# Altium schematic symbol library Terminal_Blocks_Pluggable_5.08mm.SchLib: 20 symbols
Pins are listed as number, name and electrical type; pins without a type are passive.

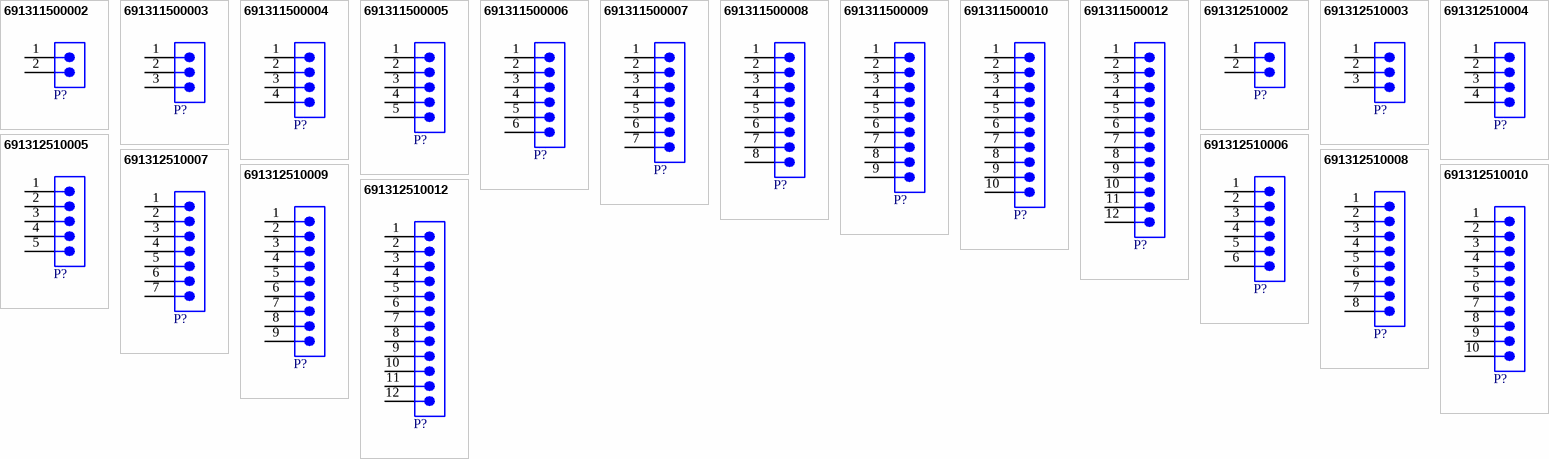
[diagram p0: symbols 691311500002 to 691312510012]

## 691311500002
designator P?  (value not drawn)
WR-TBL Series 311 Open Vertical PCB Header, THT, pitch 5.08mm, 2p; Manufacturer: Wurth Elektronik; Modularity: No; Rated Current: 20A; Working Voltage: 300V; Supply 3 Name: ThegioiIC; ComponentLink1Description: Website Link; ComponentLink1URL: https://www.we-online.com/redexpert/article/691311500002?ad; ComponentLink2Description: Datasheet Link; ComponentLink2URL: https://www.we-online.com/redexpert/spec/691311500002?ad; Manufacturer Part Number: 691311500002; Category: Terminal Blocks; Match Code: WR-TBL; Mount: Through Hole; Operating Temperature Max: 105°C; Operating Temperature Min: -40°C; Packaging: Box; Application: Pluggable; Number of Pins: 2; Number of Rows: 1; Orientation: Vertical; Pitch: 5.08mm; Supply 1 Name: *; Supply 1 SN: *; Supply 1 URL: *; Supply 2 Name: *; Supply 2 SN: *; Supply 2 URL: *; Supply 3 SN: *; Supply 3 URL 1: https://www.thegioiic.com/kf-5-08-2-v-terminal-block-plug-in-han-pcb-2-chan-thang-5-08mm-300v-15a; Supply 3 URL 2: https://www.thegioiic.com/ul-5-08-2-v-terminal-block-plug-in-han-pcb-2-chan-thang-5-08mm-300v-15a-ulo
footprint 691311500002
pins: 1, 2

## 691311500003
designator P?  (value not drawn)
WR-TBL Series 311 Open Vertical PCB Header, THT, pitch 5.08mm, 3p; Manufacturer: Wurth Elektronik; Modularity: No; Rated Current: 20A; Working Voltage: 300V; Supply 3 Name: ThegioiIC; ComponentLink1Description: Website Link; ComponentLink1URL: https://www.we-online.com/redexpert/article/691311500003?ad; ComponentLink2Description: Datasheet Link; ComponentLink2URL: https://www.we-online.com/redexpert/spec/691311500003?ad; Manufacturer Part Number: 691311500003; Category: Terminal Blocks; Match Code: WR-TBL; Mount: Through Hole; Operating Temperature Max: 105°C; Operating Temperature Min: -40°C; Packaging: Box; Application: Pluggable; Number of Pins: 3; Number of Rows: 1; Orientation: Vertical; Pitch: 5.08mm; Supply 1 Name: *; Supply 1 SN: *; Supply 1 URL: *; Supply 2 Name: *; Supply 2 SN: *; Supply 2 URL: *; Supply 3 SN: *; Supply 3 URL 1: https://www.thegioiic.com/kf-5-08-3-v-terminal-block-plug-in-han-pcb-3-chan-thang-5-08mm-300v-15a; Supply 3 URL 2: https://www.thegioiic.com/ul-5-08-3-v-terminal-block-plug-in-han-pcb-3-chan-thang-5-08mm-300v-15a-ulo
footprint 691311500003
pins: 1, 2, 3

## 691311500004
designator P?  (value not drawn)
WR-TBL Series 311 Open Vertical PCB Header, THT, pitch 5.08mm, 4p; Manufacturer: Wurth Elektronik; Modularity: No; Rated Current: 20A; Working Voltage: 300V; Supply 3 Name: ThegioiIC; ComponentLink1Description: Website Link; ComponentLink1URL: https://www.we-online.com/redexpert/article/691311500004?ad; ComponentLink2Description: Datasheet Link; ComponentLink2URL: https://www.we-online.com/redexpert/spec/691311500004?ad; Manufacturer Part Number: 691311500004; Category: Terminal Blocks; Match Code: WR-TBL; Mount: Through Hole; Operating Temperature Max: 105°C; Operating Temperature Min: -40°C; Packaging: Box; Application: Pluggable; Number of Pins: 4; Number of Rows: 1; Orientation: Vertical; Pitch: 5.08mm; Supply 1 Name: *; Supply 1 SN: *; Supply 1 URL: *; Supply 2 Name: *; Supply 2 SN: *; Supply 2 URL: *; Supply 3 SN: *; Supply 3 URL 1: https://www.thegioiic.com/kf-5-08-4-v-terminal-block-plug-in-han-pcb-4-chan-thang-5-08mm-300v-15a; Supply 3 URL 2: https://www.thegioiic.com/ul-5-08-4-v-terminal-block-plug-in-han-pcb-4-chan-thang-5-08mm-300v-15a-ulo
footprint 691311500004
pins: 1, 2, 3, 4

## 691311500005
designator P?  (value not drawn)
WR-TBL Series 311 Open Vertical PCB Header, THT, pitch 5.08mm, 5p; Manufacturer: Wurth Elektronik; Modularity: No; Rated Current: 20A; Working Voltage: 300V; Supply 3 Name: ThegioiIC; ComponentLink1Description: Website Link; ComponentLink1URL: https://www.we-online.com/redexpert/article/691311500005?ad; ComponentLink2Description: Datasheet Link; ComponentLink2URL: https://www.we-online.com/redexpert/spec/691311500005?ad; Manufacturer Part Number: 691311500005; Category: Terminal Blocks; Match Code: WR-TBL; Mount: Through Hole; Operating Temperature Max: 105°C; Operating Temperature Min: -40°C; Packaging: Box; Application: Pluggable; Number of Pins: 5; Number of Rows: 1; Orientation: Vertical; Pitch: 5.08mm; Supply 1 Name: *; Supply 1 SN: *; Supply 1 URL: *; Supply 2 Name: *; Supply 2 SN: *; Supply 2 URL: *; Supply 3 SN: *; Supply 3 URL 1: https://www.thegioiic.com/kf-5-08-5-v-terminal-block-plug-in-han-pcb-5-chan-thang-5-08mm-300v-15a; Supply 3 URL 2: https://www.thegioiic.com/ul-5-08-5-v-terminal-block-plug-in-han-pcb-5-chan-thang-5-08mm-300v-15a-ulo
footprint 691311500005
pins: 1, 2, 3, 4, 5

## 691311500006
designator P?  (value not drawn)
WR-TBL Series 311 Open Vertical PCB Header, THT, pitch 5.08mm, 6p; Manufacturer: Wurth Elektronik; Modularity: No; Rated Current: 20A; Working Voltage: 300V; Supply 3 Name: ThegioiIC; ComponentLink1Description: Website Link; ComponentLink1URL: https://www.we-online.com/redexpert/article/691311500006?ad; ComponentLink2Description: Datasheet Link; ComponentLink2URL: https://www.we-online.com/redexpert/spec/691311500006?ad; Manufacturer Part Number: 691311500006; Category: Terminal Blocks; Match Code: WR-TBL; Mount: Through Hole; Operating Temperature Max: 105°C; Operating Temperature Min: -40°C; Packaging: Box; Application: Pluggable; Number of Pins: 6; Number of Rows: 1; Orientation: Vertical; Pitch: 5.08mm; Supply 1 Name: *; Supply 1 SN: *; Supply 1 URL: *; Supply 2 Name: *; Supply 2 SN: *; Supply 2 URL: *; Supply 3 SN: *; Supply 3 URL 1: https://www.thegioiic.com/kf-5-08-6-v-terminal-block-plug-in-han-pcb-6-chan-thang-5-08mm-300v-15a; Supply 3 URL 2: https://www.thegioiic.com/ul-5-08-6-v-terminal-block-plug-in-han-pcb-6-chan-thang-5-08mm-300v-15a-ulo
footprint 691311500006
pins: 1, 2, 3, 4, 5, 6

## 691311500007
designator P?  (value not drawn)
WR-TBL Series 311 Open Vertical PCB Header, THT, pitch 5.08mm, 7p; Manufacturer: Wurth Elektronik; Modularity: No; Rated Current: 20A; Working Voltage: 300V; Supply 3 Name: ThegioiIC; ComponentLink1Description: Website Link; ComponentLink1URL: https://www.we-online.com/redexpert/article/691311500007?ad; ComponentLink2Description: Datasheet Link; ComponentLink2URL: https://www.we-online.com/redexpert/spec/691311500007?ad; Manufacturer Part Number: 691311500007; Category: Terminal Blocks; Match Code: WR-TBL; Mount: Through Hole; Operating Temperature Max: 105°C; Operating Temperature Min: -40°C; Packaging: Box; Application: Pluggable; Number of Pins: 7; Number of Rows: 1; Orientation: Vertical; Pitch: 5.08mm; Supply 1 Name: *; Supply 1 SN: *; Supply 1 URL: *; Supply 2 Name: *; Supply 2 SN: *; Supply 2 URL: *; Supply 3 SN: *; Supply 3 URL 1: https://www.thegioiic.com/kf-5-08-7-v-terminal-block-plug-in-han-pcb-7-chan-thang-5-08mm-300v-15a; Supply 3 URL 2: https://www.thegioiic.com/ul-5-08-7-v-terminal-block-plug-in-han-pcb-7-chan-thang-5-08mm-300v-15a-ulo
footprint 691311500007
pins: 1, 2, 3, 4, 5, 6, 7

## 691311500008
designator P?  (value not drawn)
WR-TBL Series 311 Open Vertical PCB Header, THT, pitch 5.08mm, 8p; Manufacturer: Wurth Elektronik; Modularity: No; Rated Current: 20A; Working Voltage: 300V; Supply 3 Name: ThegioiIC; ComponentLink1Description: Website Link; ComponentLink1URL: https://www.we-online.com/redexpert/article/691311500008?ad; ComponentLink2Description: Datasheet Link; ComponentLink2URL: https://www.we-online.com/redexpert/spec/691311500008?ad; Manufacturer Part Number: 691311500008; Category: Terminal Blocks; Match Code: WR-TBL; Mount: Through Hole; Operating Temperature Max: 105°C; Operating Temperature Min: -40°C; Packaging: Box; Application: Pluggable; Number of Pins: 8; Number of Rows: 1; Orientation: Vertical; Pitch: 5.08mm; Supply 1 Name: *; Supply 1 SN: *; Supply 1 URL: *; Supply 2 Name: *; Supply 2 SN: *; Supply 2 URL: *; Supply 3 SN: *; Supply 3 URL 1: https://www.thegioiic.com/kf-5-08-8-v-terminal-block-plug-in-han-pcb-8-chan-thang-5-08mm-300v-15a; Supply 3 URL 2: https://www.thegioiic.com/ul-5-08-8-v-terminal-block-plug-in-han-pcb-8-chan-thang-5-08mm-300v-15a-ulo
footprint 691311500008
pins: 1, 2, 3, 4, 5, 6, 7, 8

## 691311500009
designator P?  (value not drawn)
WR-TBL Series 311 Open Vertical PCB Header, THT, pitch 5.08mm, 9p; Manufacturer: Wurth Elektronik; Modularity: No; Rated Current: 20A; Working Voltage: 300V; Supply 3 Name: ThegioiIC; ComponentLink1Description: Website Link; ComponentLink1URL: https://www.we-online.com/redexpert/article/691311500009?ad; ComponentLink2Description: Datasheet Link; ComponentLink2URL: https://www.we-online.com/redexpert/spec/691311500009?ad; Manufacturer Part Number: 691311500009; Category: Terminal Blocks; Match Code: WR-TBL; Mount: Through Hole; Operating Temperature Max: 105°C; Operating Temperature Min: -40°C; Packaging: Box; Application: Pluggable; Number of Pins: 9; Number of Rows: 1; Orientation: Vertical; Pitch: 5.08mm; Supply 1 Name: *; Supply 1 SN: *; Supply 1 URL: *; Supply 2 Name: *; Supply 2 SN: *; Supply 2 URL: *; Supply 3 SN: *; Supply 3 URL 1: https://www.thegioiic.com/kf-5-08-9-v-terminal-block-plug-in-han-pcb-9-chan-thang-5-08mm-300v-15a; Supply 3 URL 2: https://www.thegioiic.com/ul-5-08-9-v-terminal-block-plug-in-han-pcb-9-chan-thang-5-08mm-300v-15a-ulo
footprint 691311500009
pins: 1, 2, 3, 4, 5, 6, 7, 8, 9

## 691311500010
designator P?  (value not drawn)
WR-TBL Series 311 Open Vertical PCB Header, THT, pitch 5.08mm, 10p; Manufacturer: Wurth Elektronik; Modularity: No; Rated Current: 20A; Working Voltage: 300V; Supply 3 Name: ThegioiIC; ComponentLink1Description: Website Link; ComponentLink1URL: https://www.we-online.com/redexpert/article/691311500010?ad; ComponentLink2Description: Datasheet Link; ComponentLink2URL: https://www.we-online.com/redexpert/spec/691311500010?ad; Manufacturer Part Number: 691311500010; Category: Terminal Blocks; Match Code: WR-TBL; Mount: Through Hole; Operating Temperature Max: 105°C; Operating Temperature Min: -40°C; Packaging: Box; Application: Pluggable; Number of Pins: 10; Number of Rows: 1; Orientation: Vertical; Pitch: 5.08mm; Supply 1 Name: *; Supply 1 SN: *; Supply 1 URL: *; Supply 2 Name: *; Supply 2 SN: *; Supply 2 URL: *; Supply 3 SN: *; Supply 3 URL 1: https://www.thegioiic.com/kf-5-08-10-v-terminal-block-plug-in-han-pcb-10-chan-thang-5-08mm-300v-15a; Supply 3 URL 2: https://www.thegioiic.com/ul-5-08-10-v-terminal-block-plug-in-han-pcb-10-chan-thang-5-08mm-300v-15a-ulo
footprint 691311500010
pins: 1, 2, 3, 4, 5, 6, 7, 8, 9, 10

## 691311500012
designator P?  (value not drawn)
WR-TBL Series 311 Open Vertical PCB Header, THT, pitch 5.08mm, 12p; Manufacturer: Wurth Elektronik; Modularity: No; Rated Current: 20A; Working Voltage: 300V; Supply 3 Name: ThegioiIC; ComponentLink1Description: Website Link; ComponentLink1URL: https://www.we-online.com/redexpert/article/691311500012?ad; ComponentLink2Description: Datasheet Link; ComponentLink2URL: https://www.we-online.com/redexpert/spec/691311500012?ad; Manufacturer Part Number: 691311500012; Category: Terminal Blocks; Match Code: WR-TBL; Mount: Through Hole; Operating Temperature Max: 105°C; Operating Temperature Min: -40°C; Packaging: Box; Application: Pluggable; Number of Pins: 12; Number of Rows: 1; Orientation: Vertical; Pitch: 5.08mm; Supply 1 Name: *; Supply 1 SN: *; Supply 1 URL: *; Supply 2 Name: *; Supply 2 SN: *; Supply 2 URL: *; Supply 3 SN: *; Supply 3 URL 1: https://www.thegioiic.com/kf-5-08-12-v-terminal-block-plug-in-han-pcb-12-chan-thang-5-08mm-300v-15a; Supply 3 URL 2: https://www.thegioiic.com/ul-5-08-12-v-terminal-block-plug-in-han-pcb-12-chan-thang-5-08mm-300v-15a-ulo
footprint 691311500012
pins: 1, 2, 3, 4, 5, 6, 7, 8, 9, 10, 11, 12

## 691312510002
designator P?  (value not drawn)
WR-TBL Series 312 Open Horizontal PCB Header, THT, pitch 5.08mm, 2p; Manufacturer: Wurth Elektronik; Modularity: No; Rated Current: 20A; Working Voltage: 300V; Supply 3 Name: ThegioiIC; ComponentLink1Description: Website Link; ComponentLink1URL: https://www.we-online.com/redexpert/article/691312510002?ad; ComponentLink2Description: Datasheet Link; ComponentLink2URL: https://www.we-online.com/redexpert/spec/691312510002?ad; Manufacturer Part Number: 691312510002; Category: Terminal Blocks; Match Code: WR-TBL; Mount: Through Hole; Operating Temperature Max: 105°C; Operating Temperature Min: -40°C; Packaging: Box; Application: Pluggable; Number of Pins: 2; Number of Rows: 1; Orientation: Horizontal; Pitch: 5.08mm; Supply 1 Name: *; Supply 1 SN: *; Supply 1 URL: *; Supply 2 Name: *; Supply 2 SN: *; Supply 2 URL: *; Supply 3 URL 1: https://www.thegioiic.com/kf-5-08-2-r-terminal-block-plug-in-han-pcb-2-chan-cong-5-08mm-300v-15a; Supply 3 URL 2: https://www.thegioiic.com/ul-5-08-2-r-terminal-block-plug-in-han-pcb-2-chan-cong-5-08mm-300v-15a-ulo; Supply 3 SN: *
footprint 691312510002
pins: 1, 2

## 691312510003
designator P?  (value not drawn)
WR-TBL Series 312 Open Horizontal PCB Header, THT, pitch 5.08mm, 3p; Manufacturer: Wurth Elektronik; Modularity: No; Rated Current: 20A; Working Voltage: 300V; Supply 3 Name: ThegioiIC; ComponentLink1Description: Website Link; ComponentLink1URL: https://www.we-online.com/redexpert/article/691312510003?ad; ComponentLink2Description: Datasheet Link; ComponentLink2URL: https://www.we-online.com/redexpert/spec/691312510003?ad; Manufacturer Part Number: 691312510003; Category: Terminal Blocks; Match Code: WR-TBL; Mount: Through Hole; Operating Temperature Max: 105°C; Operating Temperature Min: -40°C; Packaging: Box; Application: Pluggable; Number of Pins: 3; Number of Rows: 1; Orientation: Horizontal; Pitch: 5.08mm; Supply 1 Name: *; Supply 1 SN: *; Supply 1 URL: *; Supply 2 Name: *; Supply 2 SN: *; Supply 2 URL: *; Supply 3 URL 1: https://www.thegioiic.com/kf-5-08-3-r-terminal-block-plug-in-han-pcb-3-chan-cong-5-08mm-300v-15a; Supply 3 URL 2: https://www.thegioiic.com/ul-5-08-3-r-terminal-block-plug-in-han-pcb-3-chan-cong-5-08mm-300v-15a-ulo; Supply 3 SN: *
footprint 691312510003
pins: 1, 2, 3

## 691312510004
designator P?  (value not drawn)
WR-TBL Series 312 Open Horizontal PCB Header, THT, pitch 5.08mm, 4p; Manufacturer: Wurth Elektronik; Modularity: No; Rated Current: 20A; Working Voltage: 300V; Supply 3 Name: ThegioiIC; ComponentLink1Description: Website Link; ComponentLink1URL: https://www.we-online.com/redexpert/article/691312510004?ad; ComponentLink2Description: Datasheet Link; ComponentLink2URL: https://www.we-online.com/redexpert/spec/691312510004?ad; Manufacturer Part Number: 691312510004; Category: Terminal Blocks; Match Code: WR-TBL; Mount: Through Hole; Operating Temperature Max: 105°C; Operating Temperature Min: -40°C; Packaging: Box; Application: Pluggable; Number of Pins: 4; Number of Rows: 1; Orientation: Horizontal; Pitch: 5.08mm; Supply 1 Name: *; Supply 1 SN: *; Supply 1 URL: *; Supply 2 Name: *; Supply 2 SN: *; Supply 2 URL: *; Supply 3 URL 1: https://www.thegioiic.com/kf-5-08-4-r-terminal-block-plug-in-han-pcb-4-chan-cong-5-08mm-300v-15a; Supply 3 URL 2: https://www.thegioiic.com/ul-5-08-4-r-terminal-block-plug-in-han-pcb-4-chan-cong-5-08mm-300v-15a-ulo; Supply 3 SN: *
footprint 691312510004
pins: 1, 2, 3, 4

## 691312510005
designator P?  (value not drawn)
WR-TBL Series 312 Open Horizontal PCB Header, THT, pitch 5.08mm, 5p; Manufacturer: Wurth Elektronik; Modularity: No; Rated Current: 20A; Working Voltage: 300V; Supply 3 Name: ThegioiIC; ComponentLink1Description: Website Link; ComponentLink1URL: https://www.we-online.com/redexpert/article/691312510005?ad; ComponentLink2Description: Datasheet Link; ComponentLink2URL: https://www.we-online.com/redexpert/spec/691312510005?ad; Manufacturer Part Number: 691312510005; Category: Terminal Blocks; Match Code: WR-TBL; Mount: Through Hole; Operating Temperature Max: 105°C; Operating Temperature Min: -40°C; Packaging: Box; Application: Pluggable; Number of Pins: 5; Number of Rows: 1; Orientation: Horizontal; Pitch: 5.08mm; Supply 1 Name: *; Supply 1 SN: *; Supply 1 URL: *; Supply 2 Name: *; Supply 2 SN: *; Supply 2 URL: *; Supply 3 URL 1: https://www.thegioiic.com/kf-5-08-5-r-terminal-block-plug-in-han-pcb-5-chan-cong-5-08mm-300v-15a; Supply 3 URL 2: https://www.thegioiic.com/ul-5-08-5-r-terminal-block-plug-in-han-pcb-5-chan-cong-5-08mm-300v-15a-ulo; Supply 3 SN: *
footprint 691312510005
pins: 1, 2, 3, 4, 5

## 691312510006
designator P?  (value not drawn)
WR-TBL Series 312 Open Horizontal PCB Header, THT, pitch 5.08mm, 6p; Manufacturer: Wurth Elektronik; Modularity: No; Rated Current: 20A; Working Voltage: 300V; Supply 3 Name: ThegioiIC; ComponentLink1Description: Website Link; ComponentLink1URL: https://www.we-online.com/redexpert/article/691312510006?ad; ComponentLink2Description: Datasheet Link; ComponentLink2URL: https://www.we-online.com/redexpert/spec/691312510006?ad; Manufacturer Part Number: 691312510006; Category: Terminal Blocks; Match Code: WR-TBL; Mount: Through Hole; Operating Temperature Max: 105°C; Operating Temperature Min: -40°C; Packaging: Box; Application: Pluggable; Number of Pins: 6; Number of Rows: 1; Orientation: Horizontal; Pitch: 5.08mm; Supply 1 Name: *; Supply 1 SN: *; Supply 1 URL: *; Supply 2 Name: *; Supply 2 SN: *; Supply 2 URL: *; Supply 3 URL 1: https://www.thegioiic.com/kf-5-08-6-r-terminal-block-plug-in-han-pcb-6-chan-cong-5-08mm-300v-15a; Supply 3 URL 2: https://www.thegioiic.com/ul-5-08-6-r-terminal-block-plug-in-han-pcb-6-chan-cong-5-08mm-300v-15a-ulo; Supply 3 SN: *
footprint 691312510006
pins: 1, 2, 3, 4, 5, 6

## 691312510007
designator P?  (value not drawn)
WR-TBL Series 312 Open Horizontal PCB Header, THT, pitch 5.08mm, 7p; Manufacturer: Wurth Elektronik; Modularity: No; Rated Current: 20A; Working Voltage: 300V; Supply 3 Name: ThegioiIC; ComponentLink1Description: Website Link; ComponentLink1URL: https://www.we-online.com/redexpert/article/691312510007?ad; ComponentLink2Description: Datasheet Link; ComponentLink2URL: https://www.we-online.com/redexpert/spec/691312510007?ad; Manufacturer Part Number: 691312510007; Category: Terminal Blocks; Match Code: WR-TBL; Mount: Through Hole; Operating Temperature Max: 105°C; Operating Temperature Min: -40°C; Packaging: Box; Application: Pluggable; Number of Pins: 7; Number of Rows: 1; Orientation: Horizontal; Pitch: 5.08mm; Supply 1 Name: *; Supply 1 SN: *; Supply 1 URL: *; Supply 2 Name: *; Supply 2 SN: *; Supply 2 URL: *; Supply 3 URL 1: https://www.thegioiic.com/kf-5-08-7-r-terminal-block-plug-in-han-pcb-7-chan-cong-5-08mm-300v-15a; Supply 3 URL 2: https://www.thegioiic.com/ul-5-08-7-r-terminal-block-plug-in-han-pcb-7-chan-cong-5-08mm-300v-15a-ulo; Supply 3 SN: *
footprint 691312510007
pins: 1, 2, 3, 4, 5, 6, 7

## 691312510008
designator P?  (value not drawn)
WR-TBL Series 312 Open Horizontal PCB Header, THT, pitch 5.08mm, 8p; Manufacturer: Wurth Elektronik; Modularity: No; Rated Current: 20A; Working Voltage: 300V; Supply 3 Name: ThegioiIC; ComponentLink1Description: Website Link; ComponentLink1URL: https://www.we-online.com/redexpert/article/691312510008?ad; ComponentLink2Description: Datasheet Link; ComponentLink2URL: https://www.we-online.com/redexpert/spec/691312510008?ad; Manufacturer Part Number: 691312510008; Category: Terminal Blocks; Match Code: WR-TBL; Mount: Through Hole; Operating Temperature Max: 105°C; Operating Temperature Min: -40°C; Packaging: Box; Application: Pluggable; Number of Pins: 8; Number of Rows: 1; Orientation: Horizontal; Pitch: 5.08mm; Supply 1 Name: *; Supply 1 SN: *; Supply 1 URL: *; Supply 2 Name: *; Supply 2 SN: *; Supply 2 URL: *; Supply 3 URL 1: https://www.thegioiic.com/kf-5-08-8-r-terminal-block-plug-in-han-pcb-8-chan-cong-5-08mm-300v-15a; Supply 3 URL 2: https://www.thegioiic.com/ul-5-08-8-r-terminal-block-plug-in-han-pcb-8-chan-cong-5-08mm-300v-15a-ulo; Supply 3 SN: *
footprint 691312510008
pins: 1, 2, 3, 4, 5, 6, 7, 8

## 691312510009
designator P?  (value not drawn)
WR-TBL Series 312 Open Horizontal PCB Header, THT, pitch 5.08mm, 9p; Manufacturer: Wurth Elektronik; Modularity: No; Rated Current: 20A; Working Voltage: 300V; Supply 3 Name: ThegioiIC; ComponentLink1Description: Website Link; ComponentLink1URL: https://www.we-online.com/redexpert/article/691312510009?ad; ComponentLink2Description: Datasheet Link; ComponentLink2URL: https://www.we-online.com/redexpert/spec/691312510009?ad; Manufacturer Part Number: 691312510009; Category: Terminal Blocks; Match Code: WR-TBL; Mount: Through Hole; Operating Temperature Max: 105°C; Operating Temperature Min: -40°C; Packaging: Box; Application: Pluggable; Number of Pins: 9; Number of Rows: 1; Orientation: Horizontal; Pitch: 5.08mm; Supply 1 Name: *; Supply 1 SN: *; Supply 1 URL: *; Supply 2 Name: *; Supply 2 SN: *; Supply 2 URL: *; Supply 3 URL 1: https://www.thegioiic.com/ul-5-08-9-r-terminal-block-plug-in-han-pcb-9-chan-cong-5-08mm-300v-15a-ulo; Supply 3 URL 2: https://www.thegioiic.com/kf-5-08-9-r-terminal-block-plug-in-han-pcb-9-chan-cong-5-08mm-300v-15a; Supply 3 SN: *
footprint 691312510009
pins: 1, 2, 3, 4, 5, 6, 7, 8, 9

## 691312510010
designator P?  (value not drawn)
WR-TBL Series 312 Open Horizontal PCB Header, THT, pitch 5.08mm, 10p; Manufacturer: Wurth Elektronik; Modularity: No; Rated Current: 20A; Working Voltage: 300V; Supply 3 Name: ThegioiIC; ComponentLink1Description: Website Link; ComponentLink1URL: https://www.we-online.com/redexpert/article/691312510010?ad; ComponentLink2Description: Datasheet Link; ComponentLink2URL: https://www.we-online.com/redexpert/spec/691312510010?ad; Manufacturer Part Number: 691312510010; Category: Terminal Blocks; Match Code: WR-TBL; Mount: Through Hole; Operating Temperature Max: 105°C; Operating Temperature Min: -40°C; Packaging: Box; Application: Pluggable; Number of Pins: 10; Number of Rows: 1; Orientation: Horizontal; Pitch: 5.08mm; Supply 1 Name: *; Supply 1 SN: *; Supply 1 URL: *; Supply 2 Name: *; Supply 2 SN: *; Supply 2 URL: *; Supply 3 URL 1: https://www.thegioiic.com/kf-5-08-10-r-terminal-block-plug-in-han-pcb-10-chan-cong-5-08mm-300v-15a; Supply 3 URL 2: https://www.thegioiic.com/ul-5-08-10-r-terminal-block-plug-in-han-pcb-10-chan-cong-5-08mm-300v-15a-ulo; Supply 3 SN: *
footprint 691312510010
pins: 1, 2, 3, 4, 5, 6, 7, 8, 9, 10

## 691312510012
designator P?  (value not drawn)
WR-TBL Series 312 Open Horizontal PCB Header, THT, pitch 5.08mm, 12p; Manufacturer: Wurth Elektronik; Modularity: No; Rated Current: 20A; Working Voltage: 300V; Supply 3 Name: ThegioiIC; ComponentLink1Description: Website Link; ComponentLink1URL: https://www.we-online.com/redexpert/article/691312510012?ad; ComponentLink2Description: Datasheet Link; ComponentLink2URL: https://www.we-online.com/redexpert/spec/691312510012?ad; Manufacturer Part Number: 691312510012; Category: Terminal Blocks; Match Code: WR-TBL; Mount: Through Hole; Operating Temperature Max: 105°C; Operating Temperature Min: -40°C; Packaging: Box; Application: Pluggable; Number of Pins: 12; Number of Rows: 1; Orientation: Horizontal; Pitch: 5.08mm; Supply 1 Name: *; Supply 1 SN: *; Supply 1 URL: *; Supply 2 Name: *; Supply 2 SN: *; Supply 2 URL: *; Supply 3 SN: https://www.thegioiic.com/kf-5-08-12-r-terminal-block-plug-in-han-pcb-12-chan-cong-5-08mm-300v-15a; Supply 3 URL 1: https://www.thegioiic.com/ul-5-08-12-r-terminal-block-plug-in-han-pcb-12-chan-cong-5-08mm-300v-15a-ulo; Supply 3 URL 2: *
footprint 691312510012
pins: 1, 2, 3, 4, 5, 6, 7, 8, 9, 10, 11, 12